# EAGLE library part OPENMV_H7 (library OpenMV)
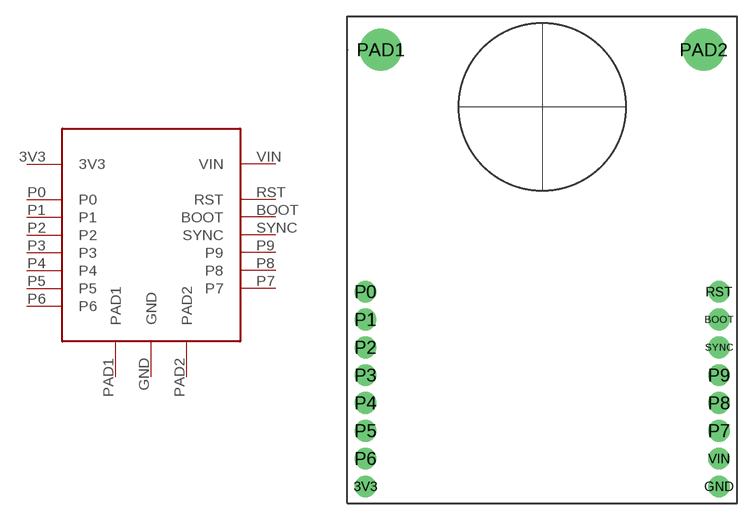
[diagram p0: symbol with the pads of OPENMV_H7; footprint OPENMV_H7]

Designator prefix -

## OPENMV_H7  [OPENMV_H7]
3V3  3V3
BOOT  BOOT
GND  GND
P0  P0
P1  P1
P2  P2
P3  P3
P4  P4
P5  P5
P6  P6
P7  P7
P8  P8
P9  P9
PAD1  PAD1
PAD2  PAD2
RST  RST
SYNC  SYNC
VIN  VIN

## Footprint OPENMV_H7 (pad centres in mm)
drill 1.016 pad 1.981: 3V3 1.651,1.524; BOOT 33.909,16.764; GND 33.909,1.524; P0 1.651,19.304; P1 1.651,16.764; P2 1.651,14.224; P3 1.651,11.684; P4 1.651,9.144; P5 1.651,6.604; P6 1.651,4.064; P7 33.909,6.604; P8 33.909,9.144; P9 33.909,11.684; RST 33.909,19.304; SYNC 33.909,14.224; VIN 33.909,4.064
drill 2.794 pad 3.81: PAD1 3.048,41.402
drill 2.794: PAD2 32.512,41.402